# EAGLE library part LMZ14203 (library _GpsAttitude)
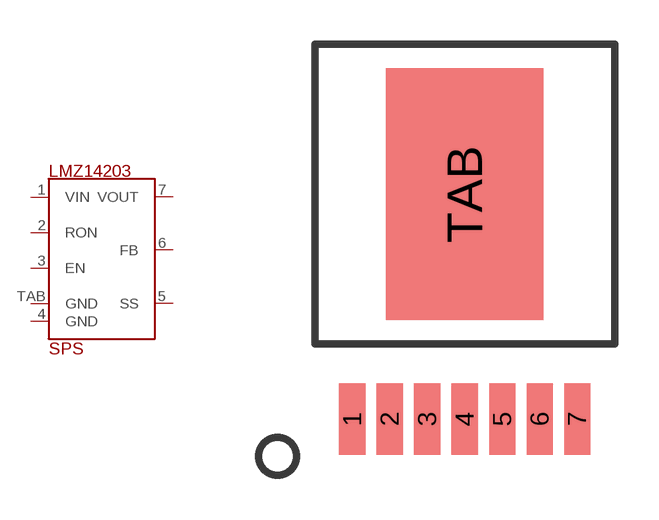
[diagram p5: symbol with the pads of TZA07A; footprint TZA07A]

Designator prefix SPS

## LMZ14203TZ  [TZA07A]
1  VIN
2  RON
3  EN
4  GND  pwr
5  SS
6  FB
7  VOUT
TAB  GND  pwr

## Footprint TZA07A (pad centres in mm)
smd 0.889 x 2.413: 1 -3.81,-7.62; 2 -2.54,-7.62; 3 -1.27,-7.62; 4 0,-7.62; 5 1.27,-7.62; 6 2.54,-7.62; 7 3.81,-7.62
smd 5.334 x 8.534: TAB 0,0